# EAGLE library part ETD_CNC (library _Transformers[Конфликт])
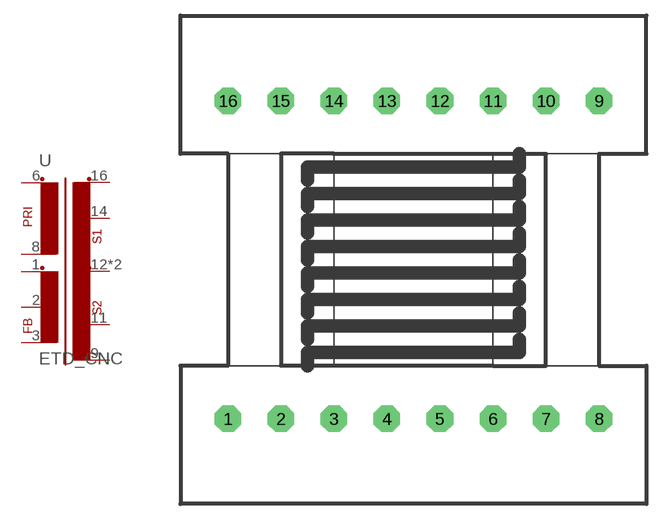
[diagram p3: symbol with the pads of ETD39_16PIN; footprint ETD39_16PIN]

Designator prefix -

## ETD_CNC  [ETD39_16PIN]
1  F+12  pas
2  F0  pas
3  F-12  pas
6  P-1  pas
8  P-2  pas
9  S-48  pas
11  S-24  pas
12  S-0  pas
13  S-0  pas
14  S1+24  pas
16  S1+48  pas

## Footprint ETD39_16PIN (pad centres in mm)
drill 1 pad 2.54 octagon: 1 -17.78,-15.24; 2 -12.7,-15.24; 3 -7.62,-15.24; 4 -2.54,-15.24; 5 2.54,-15.24; 6 7.62,-15.24; 7 12.7,-15.24; 8 17.78,-15.24; 9 17.78,15.24; 10 12.7,15.24; 11 7.62,15.24; 12 2.54,15.24; 13 -2.54,15.24; 14 -7.62,15.24; 15 -12.7,15.24; 16 -17.78,15.24